# Altium footprint library RainbowF103C.PcbLib: 1 footprints
Each footprint in its own frame and in the unit in brackets; x right, y up, seen from the top. Pads: shape width x height; smd on the part's side, far side on the other; paste and mask are expansions set on the pad; w line width, h text height; cw(c..) or ccw(c..) is an arc to the next point about the centre after c.
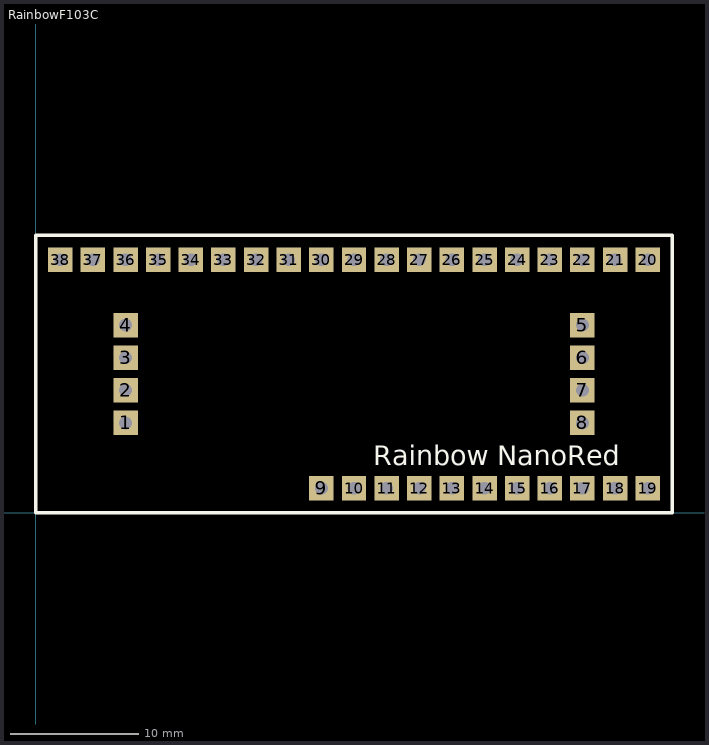
[diagram p0: the footprint, top view; thin cyan lines are the x and y axes]

## RainbowF103C [mm]
pads (38):
  rect 1.905x1.905 hole 1: 1(6.985,6.985) 2(6.985,9.525) 3(6.985,12.065) 4(6.985,14.605) 5(42.545,14.605) 6(42.545,12.065) 7(42.545,9.525) 8(42.545,6.985) 9(22.225,1.905) 10(24.765,1.905) 11(27.305,1.905) 12(29.845,1.905) 13(32.385,1.905) 14(34.925,1.905) 15(37.465,1.905) 16(40.005,1.905) 17(42.545,1.905) 18(45.085,1.905) 19(47.625,1.905) 20(47.625,19.685) 21(45.085,19.685) 22(42.545,19.685) 23(40.005,19.685) 24(37.465,19.685) 25(34.925,19.685) 26(32.385,19.685) 27(29.845,19.685) 28(27.305,19.685) 29(24.765,19.685) 30(22.225,19.685) 31(19.685,19.685) 32(17.145,19.685) 33(14.605,19.685) 34(12.065,19.685) 35(9.525,19.685) 36(6.985,19.685) 37(4.445,19.685) 38(1.905,19.685)
Top Overlay:
  lines w0.254: 0,0 49.53,0 49.53,21.59 0,21.59 0,0
  text "Rainbow NanoRed" at 26.264,3.683 h1.52
3D body: height 4.97, standoff -8.01, extent -2.912,0 52.442,21.59